# Altium footprint library MyLib.PcbLib: 59 footprints (part 1 of 4)
Each footprint in its own frame and in the unit in brackets; x right, y up, seen from the top. Pads: shape width x height; smd on the part's side, far side on the other; paste and mask are expansions set on the pad; w line width, h text height; cw(c..) or ccw(c..) is an arc to the next point about the centre after c.
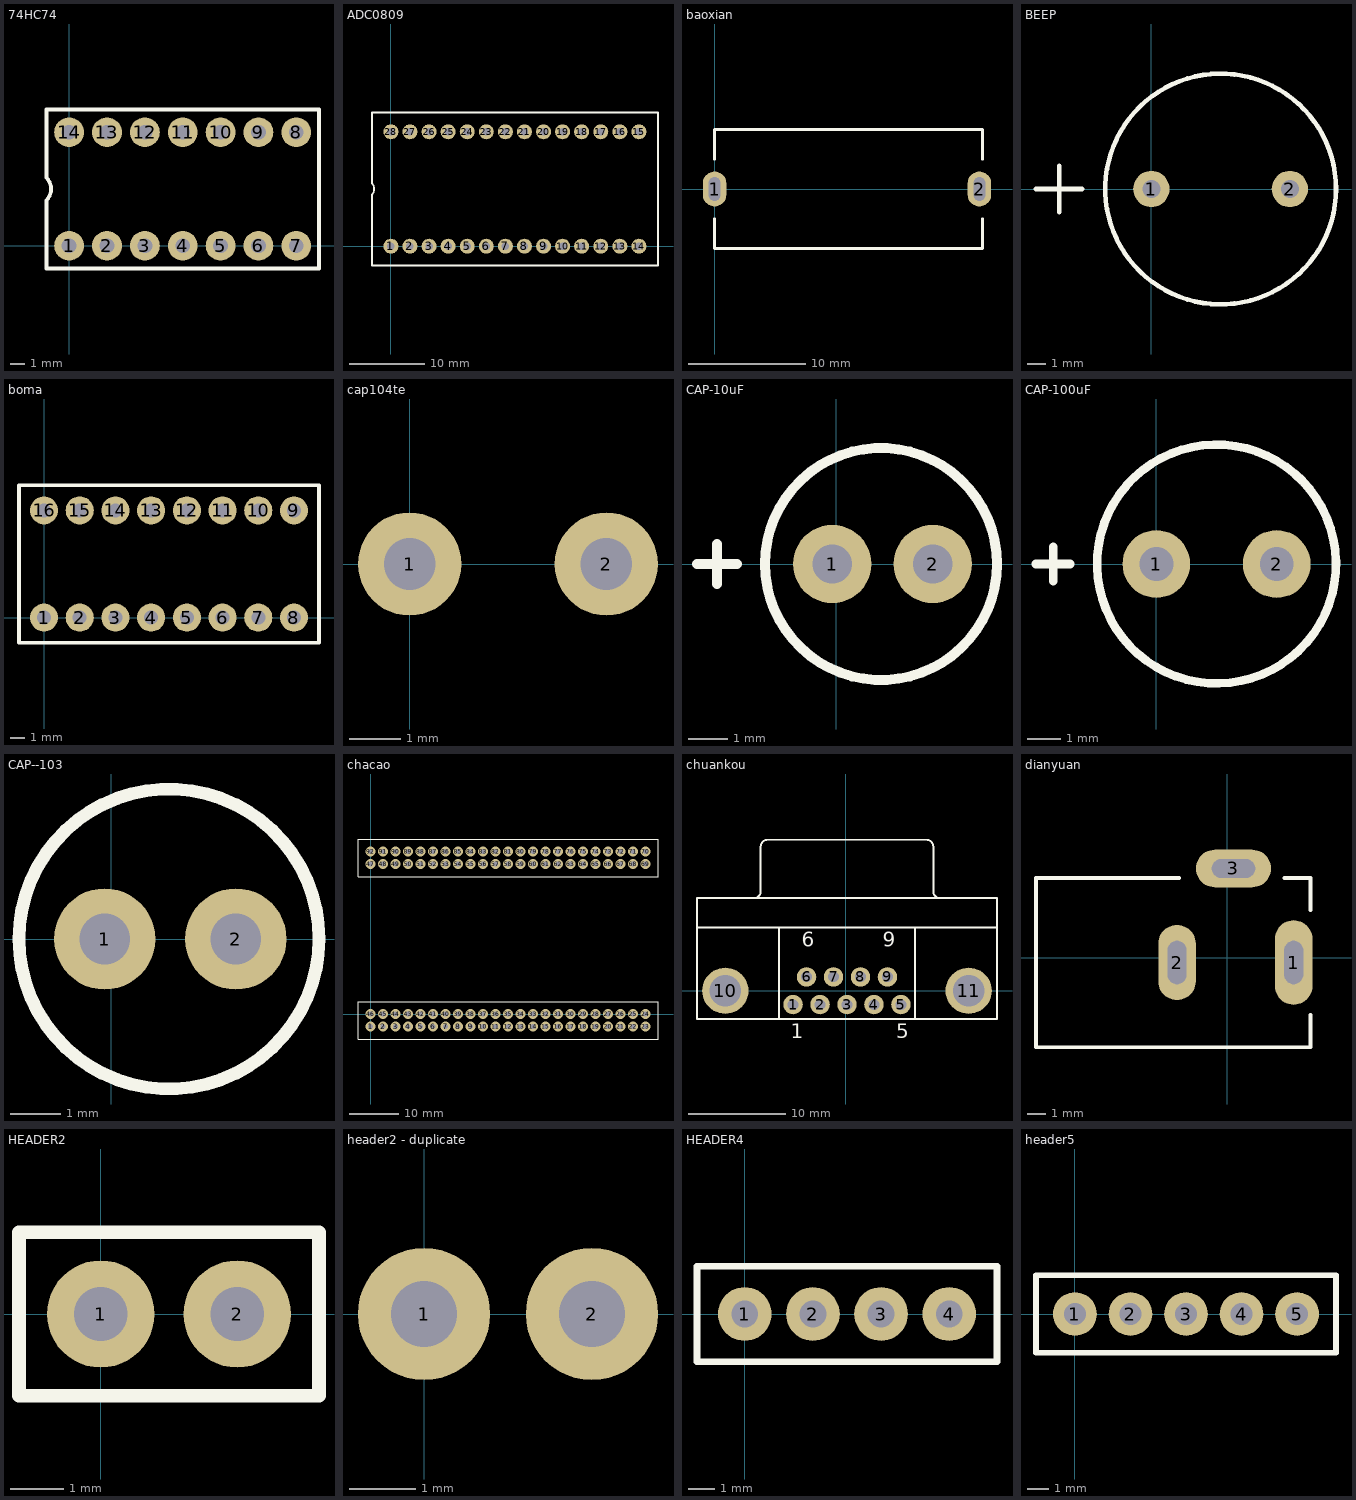
[diagram p0: the footprints below, top view; thin cyan lines are the x and y axes]

## 74HC74 [mm]
pads (14):
  round 2 hole 1: 1(0,0) 2(2.54,0) 3(5.08,0) 4(7.62,0) 5(10.16,0) 6(12.7,0) 7(15.24,0) 8(15.24,7.62) 9(12.7,7.62) 10(10.16,7.62) 11(7.62,7.62) 12(5.08,7.62) 13(2.54,7.62) 14(0,7.62)
Top Overlay:
  lines w0.254: -1.524,-1.524 -1.524,3.048 ccw(c-2.286,3.81) -1.524,4.572 -1.524,9.144 16.764,9.144 16.764,-1.524 -1.524,-1.524

## ADC0809 [mm]
pads (28):
  round 2 hole 1: 1(0,0) 2(2.54,0) 3(5.08,0) 4(7.62,0) 5(10.16,0) 6(12.7,0) 7(15.24,0) 8(17.78,0) 9(20.32,0) 10(22.86,0) 11(25.4,0) 12(27.94,0) 13(30.48,0) 14(33.02,0) 15(33.02,15.24) 16(30.48,15.24) 17(27.94,15.24) 18(25.4,15.24) 19(22.86,15.24) 20(20.32,15.24) 21(17.78,15.24) 22(15.24,15.24) 23(12.7,15.24) 24(10.16,15.24) 25(7.62,15.24) 26(5.08,15.24) 27(2.54,15.24) 28(0,15.24)
Top Overlay:
  lines w0.254: -2.54,-2.54 35.56,-2.54 35.56,17.78 -2.54,17.78 -2.54,8.382 cw(c-3.302,7.62) -2.54,6.858 -2.54,-2.54

## baoxian [mm]
pads (2):
  oval 2x3 hole 1 slot 2 at 90 deg: 1(0,0) 2(22.606,0)
Top Overlay:
  lines w0.254: 0,-2.54 0,-5.08 22.86,-5.08 22.86,-2.54 ; 0,2.54 0,5.08 22.86,5.08 22.86,2.54

## BEEP [mm]
pads (2):
  round 2 hole 1: 1(0,0) 2(7.62,0)
Top Overlay:
  circle w0.254: c3.81,0 r6.35
  lines w0.254: -6.35,0 -3.81,0 ; -5.08,-1.27 -5.08,1.27

## boma [mm]
pads (16):
  round 2 hole 1: 1(0,0) 2(2.54,0) 3(5.08,0) 4(7.62,0) 5(10.16,0) 6(12.7,0) 7(15.24,0) 8(17.78,0) 9(17.78,7.62) 10(15.24,7.62) 11(12.7,7.62) 12(10.16,7.62) 13(7.62,7.62) 14(5.08,7.62) 15(2.54,7.62) 16(0,7.62)
Top Overlay:
  lines w0.254: -1.778,-1.778 -1.778,9.398 19.558,9.398 19.558,6.858 19.558,-1.778 -1.778,-1.778

## cap104te [mm]
pads (2):
  round 2 hole 1: 1(0,0) 2(3.81,0)

## CAP-10uF [mm]
pads (2):
  round 2 hole 1: 1(-0.102,0) 2(2.464,0)
Top Overlay:
  circle w0.254: c1.143,0 r2.962
  lines w0.254: -3.556,0 -2.54,0 ; -3.048,-0.508 -3.048,0.508

## CAP-100uF [mm]
pads (2):
  round 2 hole 1: 1(0,0) 2(3.556,0)
Top Overlay:
  lines w0.254: -3.556,0 -3.048,0 -2.54,0 ; -3.048,-0.508 -3.048,0.508 ; 5.298,-0.251 cw(c1.778,0) 5.299,-0.235

## CAP--103 [mm]
pads (2):
  round 2 hole 1: 1(-0.127,0) 2(2.464,0)
Top Overlay:
  circle w0.254: c1.143,0 r2.962

## chacao [mm]
pads (92):
  round 2 hole 1 unplated: 1(0,-2.54) 2(2.54,-2.54) 3(5.08,-2.54) 4(7.62,-2.54) 5(10.16,-2.54) 6(12.7,-2.54) 7(15.24,-2.54) 8(17.78,-2.54) 9(20.32,-2.54) 10(22.86,-2.54) 11(25.4,-2.54) 12(27.94,-2.54) 13(30.48,-2.54) 14(33.02,-2.54) 15(35.56,-2.54) 16(38.1,-2.54) 17(40.64,-2.54) 18(43.18,-2.54) 19(45.72,-2.54) 20(48.26,-2.54) 21(50.8,-2.54) 22(53.34,-2.54) 23(55.88,-2.54) 24(55.88,0) 25(53.34,0) 26(50.8,0) 27(48.26,0) 28(45.72,0) 29(43.18,0) 30(40.64,0) 31(38.1,0) 32(35.56,0) 33(33.02,0) 34(30.48,0) 35(27.94,0) 36(25.4,0) 37(22.86,0) 38(20.32,0) 39(17.78,0) 40(15.24,0) 41(12.7,0) 42(10.16,0) 43(7.62,0) 44(5.08,0) 45(2.54,0) 46(0,0)
  round 2 hole 1: 47(0,30.48) 48(2.54,30.48) 49(5.08,30.48) 50(7.62,30.48) 51(10.16,30.48) 52(12.7,30.48) 53(15.24,30.48) 54(17.78,30.48) 55(20.32,30.48) 56(22.86,30.48) 57(25.4,30.48) 58(27.94,30.48) 59(30.48,30.48) 60(33.02,30.48) 61(35.56,30.48) 62(38.1,30.48) 63(40.64,30.48) 64(43.18,30.48) 65(45.72,30.48) 66(48.26,30.48) 67(50.8,30.48) 68(53.34,30.48) 69(55.88,30.48) 70(55.88,33.02) 71(53.34,33.02) 72(50.8,33.02) 73(48.26,33.02) 74(45.72,33.02) 75(43.18,33.02) 76(40.64,33.02) 77(38.1,33.02) 78(35.56,33.02) 79(33.02,33.02) 80(30.48,33.02) 81(27.94,33.02) 82(25.4,33.02) 83(22.86,33.02) 84(20.32,33.02) 85(17.78,33.02) 86(15.24,33.02) 87(12.7,33.02) 88(10.16,33.02) 89(7.62,33.02) 90(5.08,33.02) 91(2.54,33.02) 92(0,33.02)
Top Overlay:
  lines w0.254: -2.54,-5.08 -2.54,2.54 0.508,2.54 58.42,2.54 58.42,-5.08 -2.54,-5.08 ; -2.54,27.94 58.42,27.94 58.42,35.56 -2.54,35.56 -2.54,27.94

## chuankou [mm]
pads (11):
  round 2 hole 1.09: 1(-5.413,-1.395) 2(-2.643,-1.395) 3(0.127,-1.395) 4(2.897,-1.395) 5(5.667,-1.395) 6(-4.028,1.445) 7(-1.258,1.445) 8(1.512,1.445) 9(4.282,1.445)
  round 4.76 hole 3.26: 10(-12.368,0.025) 11(12.622,0.025)
Top Overlay:
  lines w0.2: -15.273,6.525 15.527,6.525 ; -9.433,9.53 ccw(c-9.433,10.225) -8.738,10.225 -8.738,14.825 ; -8.733,14.83 cw(c-8.038,14.83) -8.038,15.525 8.292,15.525 cw(c8.292,14.83) 8.987,14.83 ; -6.873,-2.875 -6.873,6.525 ; 7.127,-2.875 7.127,6.525 ; 8.992,14.825 8.992,10.225 ccw(c9.687,10.225) 9.687,9.53 ; -15.273,-2.875 15.527,-2.875 15.527,9.525 -15.273,9.525 -15.273,-2.875
  text "6" at -4.528,4.55 h1.5
  text "9" at 3.782,4.55 h1.5
  text "5" at 5.167,-4.85 h1.5
  text "1" at -5.663,-4.85 h1.5

## dianyuan [mm]
pads (3):
  oval 2x4.5 hole 1 slot 2.3 at 90 deg: 1(3.54,-0.254)
  oval 2x4 hole 1 slot 2.3 at 90 deg: 2(-2.66,-0.254)
  oval 4x2 hole 1 slot 2.3 at 0 deg: 3(0.34,4.746)
Top Overlay:
  lines w0.2: -2.54,4.246 -10.16,4.246 -10.16,-4.754 4.44,-4.754 4.44,-3.048 ; 3.048,4.246 4.44,4.246 4.44,2.54
Mechanical 1:
  lines w1: -2.66,-1.254 -2.66,0.746 ; -0.66,4.746 1.34,4.746 ; 3.54,-1.504 3.54,0.996

## HEADER2 [mm]
pads (2):
  round 2 hole 1: 1(0,0) 2(2.54,0)
Top Overlay:
  lines w0.254: -1.524,-1.524 4.064,-1.524 4.064,1.524 -1.524,1.524 -1.524,-1.524

## header2 - duplicate [mm]
pads (2):
  round 2 hole 1: 1(0,0) 2(2.54,0)

## HEADER4 [mm]
pads (4):
  round 2 hole 1: 1(0,0) 2(2.54,0) 3(5.08,0) 4(7.62,0)
Top Overlay:
  lines w0.254: -1.778,-1.778 -1.778,1.778 9.398,1.778 9.398,-1.778 -1.778,-1.778

## header5 [mm]
pads (5):
  round 2 hole 1: 1(0,0) 2(2.54,0) 3(5.08,0) 4(7.62,0) 5(10.16,0)
Top Overlay:
  lines w0.254: -1.778,-1.778 -1.778,1.778 11.938,1.778 11.938,-1.778 -1.778,-1.778